# Altium schematic symbol library CSTNE24M0VH3C000R0.Schlib: 1 symbol
Pins are listed as number, name and electrical type; pins without a type are passive.

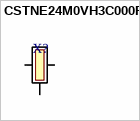
[diagram p0: symbol CSTNE24M0VH3C000R0]

## CSTNE24M0VH3C000R0
designator X?
Crystal
pins: 1, 2, 3